# EAGLE library part MAX874CPA (library Hexellence-MixedSignal)
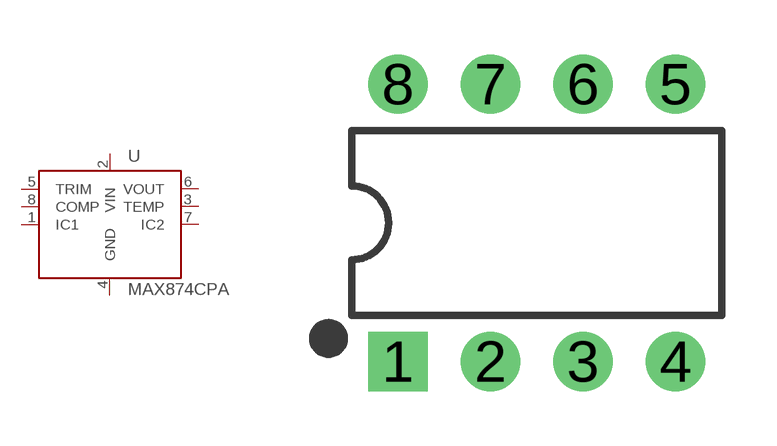
[diagram p1: symbol with the pads of DIP08; footprint DIP08]

Designator prefix U

## MAX874CPA  [DIP08]
1  IC1  nc
2  VIN  pwr
3  TEMP  out
4  GND  pwr
5  TRIM  nc
6  VOUT  out
7  IC2  nc
8  COMP  nc

## Footprint DIP08 (pad centres in mm)
Dual In Line Package
drill 0.813 pad 1.626 square: 1 -3.81,-3.81
drill 0.813 pad 1.626: 2 -1.27,-3.81; 3 1.27,-3.81; 4 3.81,-3.81; 5 3.81,3.81; 6 1.27,3.81; 7 -1.27,3.81; 8 -3.81,3.81